# Altium schematic symbol library Modules.SchLib: 13 symbols
Pins are listed as number, name and electrical type; pins without a type are passive.

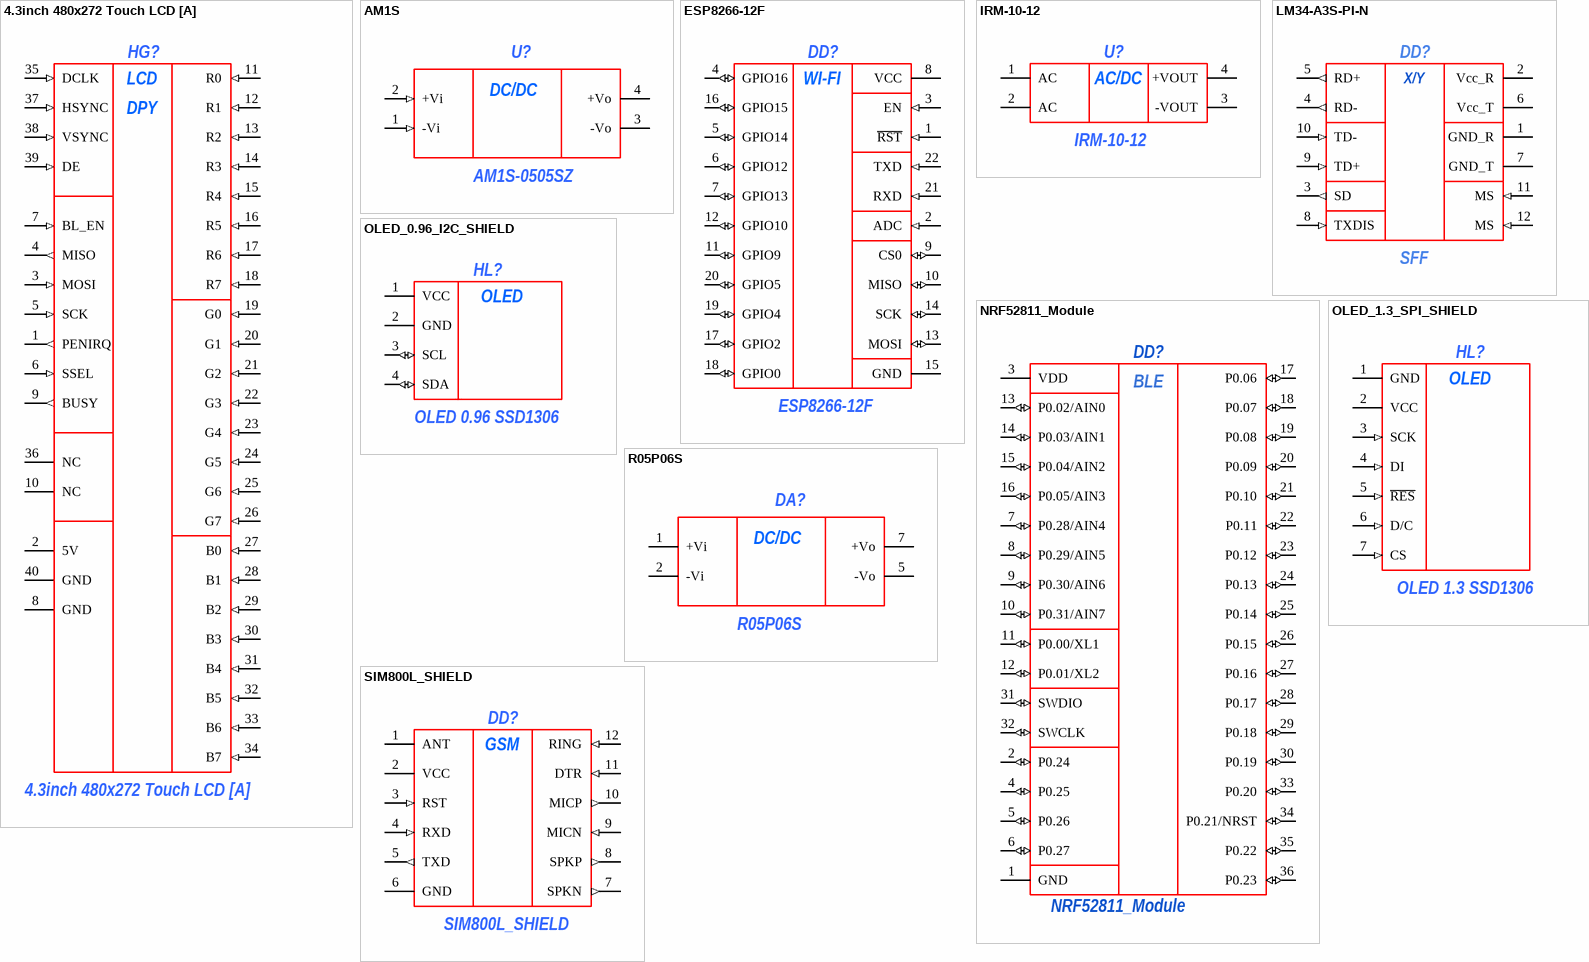
[diagram p0: symbols 4.3inch 480x272 Touch LCD [A] to SIM800L_SHIELD]

## 4.3inch 480x272 Touch LCD [A]
designator HG?
ComponentLink1Description: *; ComponentLink1URL: *; ComponentLink2Description: *; ComponentLink2URL: *; ManufacturerPartNumber: 4.3inch 480x272 Touch LCD [A]; Power/Voltage: *; Rem: *; TKE: *; Tolerance: *; TU/GOST: *; Value: *; Корпус: *; Примечание: *; Manufacturer: *; Author: *; Type: *
footprint 4.3inch 480x272 Touch LCD [A]
pins: 1 PENIRQ (out), 2 5V (power), 3 MOSI (in), 4 MISO (out), 5 SCK (in), 6 SSEL (in), 7 BL_EN (in), 8 GND (power), 9 BUSY (out), 10 NC, 11 R0 (in), 12 R1 (in), 13 R2 (in), 14 R3 (in), 15 R4 (in), 16 R5 (in), 17 R6 (in), 18 R7 (in), 19 G0 (in), 20 G1 (in), 21 G2 (in), 22 G3 (in), 23 G4 (in), 24 G5 (in), 25 G6 (in), 26 G7 (in), 27 B0 (in), 28 B1 (in), 29 B2 (in), 30 B3 (in), 31 B4 (in), 32 B5 (in), 33 B6 (in), 34 B7 (in), 35 DCLK (in), 36 NC, 37 HSYNC (in), 38 VSYNC (in), 39 DE (in), 40 GND (power)
text: LCD; DPY

## AM1S
designator U?, comment AM1S-0505SZ
DC/DC преобразователь Uвх=5В, Uвых=5В 1Вт; ComponentLink1Description: *; ComponentLink1URL: *; ComponentLink2Description: *; ComponentLink2URL: *; ManufacturerPartNumber: AM1S-0505SZ; Power/Voltage: *; Rem: *; TKE: *; Tolerance: *; TU/GOST: *; Value: *; Корпус: *; Примечание: *; Manufacturer: *; Author: *; Type: *
footprint AM1S-0505SZ
pins: 1 -Vi (in), 2 +Vi (in), 3 -Vo (power), 4 +Vo (power)
text: DC/DC

## ESP8266-12F
designator DD?
ComponentLink1Description: *; ComponentLink1URL: *; ComponentLink2Description: *; ComponentLink2URL: *; ManufacturerPartNumber: ESP8266-12F; Power/Voltage: *; Rem: *; TKE: *; Tolerance: *; TU/GOST: *; Value: *; Корпус: *; Примечание: *; Manufacturer: *; Author: *; Type: *
footprint ESP8266
pins: 1 ~{RST} (in), 2 ADC (in), 3 EN (in), 4 GPIO16 (io), 5 GPIO14 (io), 6 GPIO12 (io), 7 GPIO13 (io), 8 VCC (power), 9 CS0 (io), 10 MISO (io), 11 GPIO9 (io), 12 GPIO10 (io), 13 MOSI (io), 14 SCK (io), 15 GND (power), 16 GPIO15 (io), 17 GPIO2 (io), 18 GPIO0 (io), 19 GPIO4 (io), 20 GPIO5 (io), 21 RXD (in), 22 TXD (in)
text: WI-FI

## IRM-10-12
designator U?
AC/DC преобразователь 12В 10Вт; ComponentLink1Description: *; ComponentLink1URL: *; ComponentLink2Description: *; ComponentLink2URL: *; ManufacturerPartNumber: IRM-10-12; Power/Voltage: *; Rem: *; TKE: *; Tolerance: *; TU/GOST: *; Value: *; Корпус: *; Примечание: *; Manufacturer: *; Author: *; Type: *
pins: 1 AC (power), 2 AC (power), 3 -VOUT (power), 4 +VOUT (power)
text: AC/DC

## LM34-A3S-PI-N
designator DD?, comment SFF
footprint SFF
pins: 1 GND_R (power) "Receiver Signal Ground", 2 Vcc_R (power) "3.3V DC", 3 SD (out) "“1” - “Signal valid”, “0” – “Lose of signal”", 4 RD- (out), 5 RD+ (out), 6 Vcc_T (power) "3.3V DC", 7 GND_T (power), 8 TXDIS (in) "Transmitter Disable (LVTTL), “1” – Disable, “0” – Enable", 9 TD+ (in), 10 TD-  (in), 11 MS (in), 12 MS (in)
text: X/Y

## NRF52811_Module
designator DD?
BLE модуль; manufacturer: *; ManufacturerPartNumber: NRF52811_Module; Power/Voltage: *; Rem: *; TKE: *; Tolerance: *; Type: *; Value: *; Корпус: *; Примечание: *
pins: 1 GND (oe), 2 P0.24 (io), 3 VDD (power), 4 P0.25 (io), 5 P0.26 (io), 6 P0.27 (io), 7 P0.28/AIN4 (io), 8 P0.29/AIN5 (io), 9 P0.30/AIN6 (io), 10 P0.31/AIN7 (io), 11 P0.00/XL1 (io), 12 P0.01/XL2 (io), 13 P0.02/AIN0 (io), 14 P0.03/AIN1 (io), 15 P0.04/AIN2 (io), 16 P0.05/AIN3 (io), 17 P0.06 (io), 18 P0.07 (io), 19 P0.08 (io), 20 P0.09 (io), 21 P0.10 (io), 22 P0.11 (io), 23 P0.12 (io), 24 P0.13 (io), 25 P0.14 (io), 26 P0.15 (io), 27 P0.16 (io), 28 P0.17 (io), 29 P0.18 (io), 30 P0.19 (io), 31 SWDIO (io), 32 SWCLK (io), 33 P0.20 (io), 34 P0.21/NRST (io), 35 P0.22 (io), 36 P0.23 (io)
text: BLE

## OLED_0.96_I2C_SHIELD
designator HL?, comment OLED 0.96 SSD1306
ComponentLink1Description: *; ComponentLink1URL: *; ComponentLink2Description: *; ComponentLink2URL: *; ManufacturerPartNumber: OLED 0.96 SSD1306; Power/Voltage: *; Rem: *; TKE: *; Tolerance: *; TU/GOST: *; Value: *; Корпус: *; Примечание: *; Manufacturer: *; Author: *; Type: *
footprint OLED
pins: 1 VCC (power), 2 GND (power), 3 SCL (io), 4 SDA (io)
text: OLED

## OLED_1.3_SPI_SHIELD
designator HL?, comment OLED 1.3 SSD1306
ComponentLink1Description: *; ComponentLink1URL: *; ComponentLink2Description: *; ComponentLink2URL: *; ManufacturerPartNumber: OLED 1.3 SSD1306; Power/Voltage: *; Rem: *; TKE: *; Tolerance: *; TU/GOST: *; Value: *; Корпус: *; Примечание: *; Manufacturer: *; Author: *; Type: *
pins: 1 GND (power), 2 VCC (power), 3 SCK (in), 4 DI (in), 5 ~{RES} (in), 6 D/C (in), 7 CS (in)
text: OLED

## R05P06S
designator DA?
DC/DC преобразователь Uвх=5В, Uвых=6В 1Вт; ComponentLink1Description: *; ComponentLink1URL: *; ComponentLink2Description: *; ComponentLink2URL: *; ManufacturerPartNumber: R05P06S; Power/Voltage: *; Rem: *; TKE: *; Tolerance: *; TU/GOST: *; Value: *; Корпус: *; Примечание: *; Manufacturer: *; Author: *; Type: *
footprint TMV0505S
pins: 1 +Vi (power), 2 -Vi (power), 5 -Vo (power), 7 +Vo (power)
text: DC/DC

## SIM800L_SHIELD
designator DD?
ComponentLink1Description: *; ComponentLink1URL: *; ComponentLink2Description: *; ComponentLink2URL: *; ManufacturerPartNumber: SIM800L_SHIELD; Power/Voltage: *; Rem: *; TKE: *; Tolerance: *; TU/GOST: *; Value: *; Корпус: *; Примечание: *; Manufacturer: *; Author: *; Type: *
footprint SIM800L_shield
pins: 1 ANT, 2 VCC (power), 3 RST (in), 4 RXD (in), 5 TXD (out), 6 GND (power), 7 SPKN (out), 8 SPKP (out), 9 MICN (in), 10 MICP (out), 11 DTR (in), 12 RING (in)
text: GSM

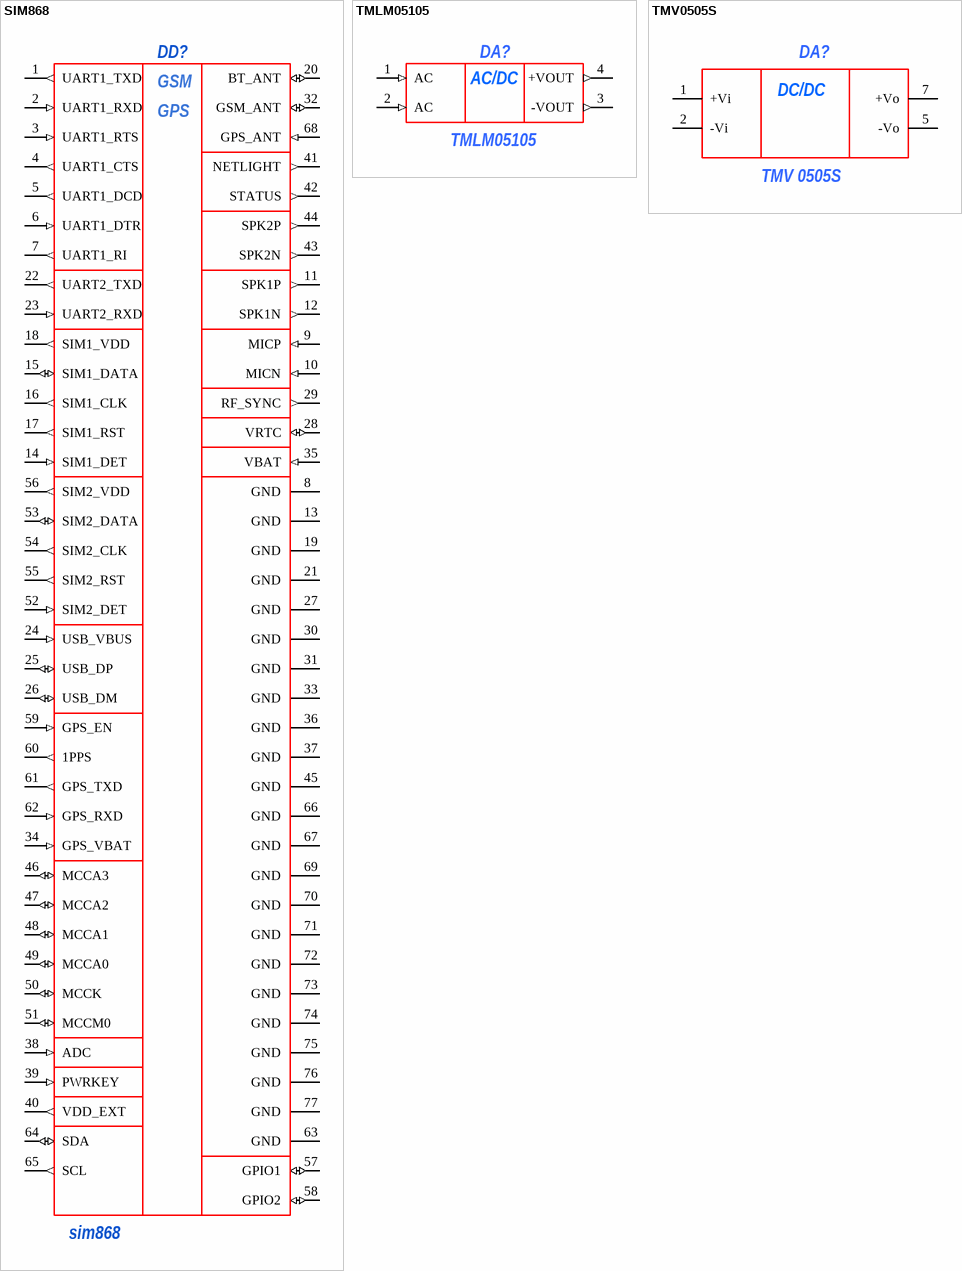
[diagram p1: symbols SIM868 to TMV0505S]

## SIM868
designator DD?, comment sim868
GSM/GPS модуль; manufacturer: *; ManufacturerPartNumber: sim868; Power/Voltage: *; Rem: *; TKE: *; Tolerance: *; Type: *; Value: *; Корпус: *; Примечание: *
footprint SIM868
pins: 1 UART1_TXD (out), 2 UART1_RXD (in), 3 UART1_RTS (in), 4 UART1_CTS (out), 5 UART1_DCD (out), 6 UART1_DTR (in), 7 UART1_RI (out), 8 GND (power), 9 MICP (in), 10 MICN (in), 11 SPK1P (out), 12 SPK1N (out), 13 GND (power), 14 SIM1_DET (in), 15 SIM1_DATA (io), 16 SIM1_CLK (out), 17 SIM1_RST (out), 18 SIM1_VDD (out), 19 GND (power), 20 BT_ANT (io), 21 GND (power), 22 UART2_TXD (out), 23 UART2_RXD (in), 24 USB_VBUS (in), 25 USB_DP (io), 26 USB_DM (io), 27 GND (power), 28 VRTC (io), 29 RF_SYNC (out), 30 GND (power), 31 GND (power), 32 GSM_ANT (io), 33 GND (power), 34 GPS_VBAT (in), 35 VBAT (in), 36 GND (power), 37 GND (power), 38 ADC (in), 39 PWRKEY (in), 40 VDD_EXT (out), 41 NETLIGHT (out), 42 STATUS (out), 43 SPK2N (out), 44 SPK2P (out), 45 GND (power), 46 MCCA3 (io), 47 MCCA2 (io), 48 MCCA1 (io), 49 MCCA0 (io), 50 MCCK (io), 51 MCCM0 (io), 52 SIM2_DET (in), 53 SIM2_DATA (io), 54 SIM2_CLK (out), 55 SIM2_RST (out), 56 SIM2_VDD (out), 57 GPIO1 (io), 58 GPIO2 (io), 59 GPS_EN (in), 60 1PPS (out), 61 GPS_TXD (out), 62 GPS_RXD (in), 63 GND (power), 64 SDA (io), 65 SCL (out), 66 GND (power), 67 GND (power), 68 GPS_ANT (in), 69 GND (power), 70 GND (power), 71 GND (power), 72 GND (power), 73 GND (power), 74 GND (power), 75 GND (power), 76 GND (power), 77 GND (power)
text: GSM; GPS

## TMLM05105
designator DA?
ComponentLink1Description: *; ComponentLink1URL: *; ComponentLink2Description: *; ComponentLink2URL: *; ManufacturerPartNumber: TMLM05105; Power/Voltage: *; Rem: *; TKE: *; Tolerance: *; TU/GOST: *; Value: *; Корпус: *; Примечание: *; Manufacturer: *; Author: *; Type: *
footprint TMLM05105
pins: 1 AC (in), 2 AC (in), 3 -VOUT (out), 4 +VOUT (out)
text: AC/DC

## TMV0505S
designator DA?, comment TMV 0505S
DC/DC преобразователь Uвх=5В, Uвых=5В 1Вт; ComponentLink1Description: *; ComponentLink1URL: *; ComponentLink2Description: *; ComponentLink2URL: *; ManufacturerPartNumber: TMV 0505S; Power/Voltage: *; Rem: *; TKE: *; Tolerance: *; TU/GOST: *; Value: *; Корпус: *; Примечание: *; Manufacturer: *; Author: *; Type: *
footprint TMV0505S
pins: 1 +Vi (power), 2 -Vi (power), 5 -Vo (power), 7 +Vo (power)
text: DC/DC